# Altium footprint library FPC.PcbLib: 3 footprints
Each footprint in its own frame and in the unit in brackets; x right, y up, seen from the top. Pads: shape width x height; smd on the part's side, far side on the other; paste and mask are expansions set on the pad; w line width, h text height; cw(c..) or ccw(c..) is an arc to the next point about the centre after c.
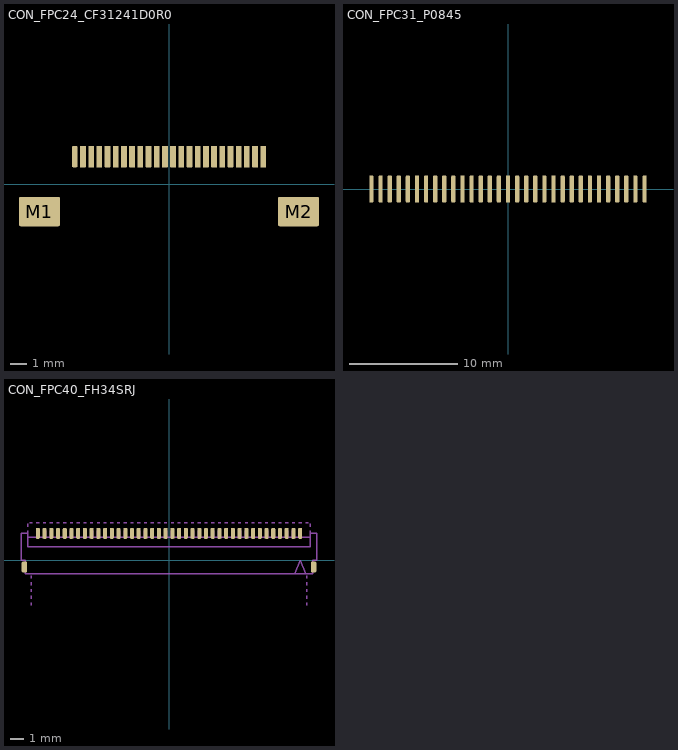
[diagram p0: the footprints below, top view; thin cyan lines are the x and y axes]

## CON_FPC24_CF31241D0R0 [mm]
pads (26):
  rrect50% 0.35x1.3 smd: 1(-5.75,1.675)
  rrect10% 0.35x1.3 smd: 2(-5.25,1.675) 3(-4.75,1.675) 4(-4.25,1.675) 5(-3.75,1.675) 6(-3.25,1.675) 7(-2.75,1.675) 8(-2.25,1.675) 9(-1.75,1.675) 10(-1.25,1.675) 11(-0.75,1.675) 12(-0.25,1.675) 13(0.25,1.675) 14(0.75,1.675) 15(1.25,1.675) 16(1.75,1.675) 17(2.25,1.675) 18(2.75,1.675) 19(3.25,1.675) 20(3.75,1.675) 21(4.25,1.675) 22(4.75,1.675) 23(5.25,1.675) 24(5.75,1.675)
  rrect10% 2.5x1.8 smd: M1(-7.9,-1.675) M2(7.9,-1.675)
3D body: height 0.2, standoff 0, extent 7,-2.075 8.6,-1.075
3D body: height 0.2, standoff 0, extent -8.6,-2.075 -7,-1.075
3D body: height 1.95, standoff 0, extent -7.6,-3.875 7.6,-0.575
3D body: height 0.8, standoff 0, extent 5.65,1.325 5.85,1.525
3D body: height 0.3, standoff 0, extent 5.65,1.425 5.85,1.825
3D body: height 0.8, standoff 0.5, extent 5.65,1.125 5.85,1.525
3D body: height 0.8, standoff 0, extent 0.15,1.325 0.35,1.525
3D body: height 0.3, standoff 0, extent 0.15,1.425 0.35,1.825
3D body: height 0.8, standoff 0.5, extent 0.15,1.125 0.35,1.525
3D body: height 0.8, standoff 0, extent 0.65,1.325 0.85,1.525
3D body: height 0.3, standoff 0, extent 0.65,1.425 0.85,1.825
3D body: height 0.8, standoff 0.5, extent 0.65,1.125 0.85,1.525
3D body: height 0.8, standoff 0, extent 1.15,1.325 1.35,1.525
3D body: height 0.3, standoff 0, extent 1.15,1.425 1.35,1.825
3D body: height 0.8, standoff 0.5, extent 1.15,1.125 1.35,1.525
3D body: height 0.8, standoff 0, extent 1.65,1.325 1.85,1.525
3D body: height 0.3, standoff 0, extent 1.65,1.425 1.85,1.825
3D body: height 0.8, standoff 0.5, extent 1.65,1.125 1.85,1.525
3D body: height 0.8, standoff 0, extent 2.15,1.325 2.35,1.525
3D body: height 0.3, standoff 0, extent 2.15,1.425 2.35,1.825
3D body: height 0.8, standoff 0.5, extent 2.15,1.125 2.35,1.525
3D body: height 0.8, standoff 0, extent 2.65,1.325 2.85,1.525
3D body: height 0.3, standoff 0, extent 2.65,1.425 2.85,1.825
3D body: height 0.8, standoff 0.5, extent 2.65,1.125 2.85,1.525
3D body: height 0.8, standoff 0, extent 3.15,1.325 3.35,1.525
3D body: height 0.3, standoff 0, extent 3.15,1.425 3.35,1.825
3D body: height 0.8, standoff 0.5, extent 3.15,1.125 3.35,1.525
3D body: height 0.8, standoff 0, extent 3.65,1.325 3.85,1.525
3D body: height 0.3, standoff 0, extent 3.65,1.425 3.85,1.825
3D body: height 0.8, standoff 0.5, extent 3.65,1.125 3.85,1.525
3D body: height 0.8, standoff 0, extent 4.15,1.325 4.35,1.525
3D body: height 0.3, standoff 0, extent 4.15,1.425 4.35,1.825
3D body: height 0.8, standoff 0.5, extent 4.15,1.125 4.35,1.525
3D body: height 0.8, standoff 0, extent 4.65,1.325 4.85,1.525
3D body: height 0.3, standoff 0, extent 4.65,1.425 4.85,1.825
3D body: height 0.8, standoff 0.5, extent 4.65,1.125 4.85,1.525
3D body: height 0.8, standoff 0, extent 5.15,1.325 5.35,1.525
3D body: height 0.3, standoff 0, extent 5.15,1.425 5.35,1.825
3D body: height 0.8, standoff 0.5, extent 5.15,1.125 5.35,1.525
3D body: height 0.8, standoff 0, extent -5.85,1.325 -5.65,1.525
3D body: height 0.3, standoff 0, extent -5.85,1.425 -5.65,1.825
3D body: height 0.8, standoff 0.5, extent -5.85,1.125 -5.65,1.525
3D body: height 0.8, standoff 0, extent -5.35,1.325 -5.15,1.525
3D body: height 0.3, standoff 0, extent -5.35,1.425 -5.15,1.825
3D body: height 0.8, standoff 0.5, extent -5.35,1.125 -5.15,1.525
3D body: height 0.8, standoff 0, extent -4.85,1.325 -4.65,1.525
3D body: height 0.3, standoff 0, extent -4.85,1.425 -4.65,1.825
3D body: height 0.8, standoff 0.5, extent -4.85,1.125 -4.65,1.525
3D body: height 0.8, standoff 0, extent -4.35,1.325 -4.15,1.525
3D body: height 0.3, standoff 0, extent -4.35,1.425 -4.15,1.825
3D body: height 0.8, standoff 0.5, extent -4.35,1.125 -4.15,1.525
3D body: height 0.8, standoff 0, extent -3.85,1.325 -3.65,1.525
3D body: height 0.3, standoff 0, extent -3.85,1.425 -3.65,1.825
3D body: height 0.8, standoff 0.5, extent -3.85,1.125 -3.65,1.525
3D body: height 0.8, standoff 0, extent -3.35,1.325 -3.15,1.525
3D body: height 0.3, standoff 0, extent -3.35,1.425 -3.15,1.825
3D body: height 0.8, standoff 0.5, extent -3.35,1.125 -3.15,1.525
3D body: height 0.8, standoff 0, extent -2.85,1.325 -2.65,1.525
3D body: height 0.3, standoff 0, extent -2.85,1.425 -2.65,1.825
3D body: height 0.8, standoff 0.5, extent -2.85,1.125 -2.65,1.525
3D body: height 0.8, standoff 0, extent -2.35,1.325 -2.15,1.525
3D body: height 0.3, standoff 0, extent -2.35,1.425 -2.15,1.825
3D body: height 0.8, standoff 0.5, extent -2.35,1.125 -2.15,1.525
3D body: height 0.8, standoff 0, extent -1.85,1.325 -1.65,1.525
3D body: height 0.3, standoff 0, extent -1.85,1.425 -1.65,1.825
3D body: height 0.8, standoff 0.5, extent -1.85,1.125 -1.65,1.525
3D body: height 0.8, standoff 0, extent -1.35,1.325 -1.15,1.525
3D body: height 0.3, standoff 0, extent -1.35,1.425 -1.15,1.825
3D body: height 0.8, standoff 0.5, extent -1.35,1.125 -1.15,1.525
3D body: height 0.8, standoff 0, extent -0.85,1.325 -0.65,1.525
3D body: height 0.3, standoff 0, extent -0.85,1.425 -0.65,1.825
3D body: height 0.8, standoff 0.5, extent -0.85,1.125 -0.65,1.525
3D body: height 0.8, standoff 0, extent -0.35,1.325 -0.15,1.525
3D body: height 0.3, standoff 0, extent -0.35,1.425 -0.15,1.825
3D body: height 0.8, standoff 0.5, extent -0.35,1.125 -0.15,1.525
3D body: height 1.94, standoff 0, extent -8.1,-3.075 8.1,1.125

## CON_FPC31_P0845 [mm]
pads (31):
  rrect50% 0.4x2.5 smd: 1(-12.675,0) 2(-11.83,0) 3(-10.985,0) 4(-10.14,0) 5(-9.295,0) 6(-8.45,0) 7(-7.605,0) 8(-6.76,0) 9(-5.915,0) 10(-5.07,0) 11(-4.225,0) 12(-3.38,0) 13(-2.535,0) 14(-1.69,0) 15(-0.845,0) 16(0,0) 17(0.845,0) 18(1.69,0) 19(2.535,0) 20(3.38,0) 21(4.225,0) 22(5.07,0) 23(5.915,0) 24(6.76,0) 25(7.605,0) 26(8.45,0) 27(9.295,0) 28(10.14,0) 29(10.985,0) 30(11.83,0) 31(12.675,0)

## CON_FPC40_FH34SRJ [mm] "Hirose FH34SRJ 40-pin FPC connector"
pads (42):
  rrect50% 0.3x0.8 smd: 1(9.75,2) 2(9.25,2) 3(8.75,2) 4(8.25,2) 5(7.75,2) 6(7.25,2) 7(6.75,2) 8(6.25,2) 9(5.75,2) 10(5.25,2) 11(4.75,2) 12(4.25,2) 13(3.75,2) 14(3.25,2) 15(2.75,2) 16(2.25,2) 17(1.75,2) 18(1.25,2) 19(0.75,2) 20(0.25,2) 21(-0.25,2) 22(-0.75,2) 23(-1.25,2) 24(-1.75,2) 25(-2.25,2) 26(-2.75,2) 27(-3.25,2) 28(-3.75,2) 29(-4.25,2) 30(-4.75,2) 31(-5.25,2) 32(-5.75,2) 33(-6.25,2) 34(-6.75,2) 35(-7.25,2) 36(-7.75,2) 37(-8.25,2) 38(-8.75,2) 39(-9.25,2) 40(-9.75,2)
  rrect50% 0.4x0.8 smd: M1(10.75,-0.5) M2(-10.75,-0.5)
Top Assembly:
  drawing of 191 lines, arcs and shapes, not listed
3D body: height 0.8, standoff 0, extent -10.775,-0.85 -10.625,-0.15
3D body: height 0.8, standoff 0, extent 10.625,-0.85 10.775,-0.15
3D body: height 0.95, standoff 0.5, extent -10.5,1 10.5,2.8
3D body: height 0.9, standoff 0, extent 9.675,-0.7 9.825,2.2
3D body: height 0.9, standoff 0, extent 9.175,-0.7 9.325,2.2
3D body: height 0.9, standoff 0, extent 8.675,-0.7 8.825,2.2
3D body: height 0.9, standoff 0, extent 8.175,-0.7 8.325,2.2
3D body: height 0.9, standoff 0, extent 7.675,-0.7 7.825,2.2
3D body: height 0.9, standoff 0, extent 7.175,-0.7 7.325,2.2
3D body: height 0.9, standoff 0, extent 6.675,-0.7 6.825,2.2
3D body: height 0.9, standoff 0, extent 6.175,-0.7 6.325,2.2
3D body: height 0.9, standoff 0, extent 5.675,-0.7 5.825,2.2
3D body: height 0.9, standoff 0, extent 5.175,-0.7 5.325,2.2
3D body: height 0.9, standoff 0, extent 4.675,-0.7 4.825,2.2
3D body: height 0.9, standoff 0, extent 4.175,-0.7 4.325,2.2
3D body: height 0.9, standoff 0, extent 3.675,-0.7 3.825,2.2
3D body: height 0.9, standoff 0, extent 3.175,-0.7 3.325,2.2
3D body: height 0.9, standoff 0, extent 2.675,-0.7 2.825,2.2
3D body: height 0.9, standoff 0, extent 2.175,-0.7 2.325,2.2
3D body: height 0.9, standoff 0, extent 1.675,-0.7 1.825,2.2
3D body: height 0.9, standoff 0, extent 1.175,-0.7 1.325,2.2
3D body: height 0.9, standoff 0, extent 0.675,-0.7 0.825,2.2
3D body: height 0.9, standoff 0, extent -0.325,-0.7 -0.175,2.2
3D body: height 0.9, standoff 0, extent -0.825,-0.7 -0.675,2.2
3D body: height 0.9, standoff 0, extent -1.325,-0.7 -1.175,2.2
3D body: height 0.9, standoff 0, extent -1.825,-0.7 -1.675,2.2
3D body: height 0.9, standoff 0, extent -2.325,-0.7 -2.175,2.2
3D body: height 0.9, standoff 0, extent -2.825,-0.7 -2.675,2.2
3D body: height 0.9, standoff 0, extent -3.325,-0.7 -3.175,2.2
3D body: height 0.9, standoff 0, extent -3.825,-0.7 -3.675,2.2
3D body: height 0.9, standoff 0, extent -4.325,-0.7 -4.175,2.2
3D body: height 0.9, standoff 0, extent -4.825,-0.7 -4.675,2.2
3D body: height 0.9, standoff 0, extent -5.325,-0.7 -5.175,2.2
3D body: height 0.9, standoff 0, extent -5.825,-0.7 -5.675,2.2
3D body: height 0.9, standoff 0, extent -6.325,-0.7 -6.175,2.2
3D body: height 0.9, standoff 0, extent -6.825,-0.7 -6.675,2.2
3D body: height 0.9, standoff 0, extent -7.325,-0.7 -7.175,2.2
3D body: height 0.9, standoff 0, extent -7.825,-0.7 -7.675,2.2
3D body: height 0.9, standoff 0, extent -8.325,-0.7 -8.175,2.2
3D body: height 0.9, standoff 0, extent -8.825,-0.7 -8.675,2.2
3D body: height 0.9, standoff 0, extent -9.325,-0.7 -9.175,2.2
3D body: height 0.9, standoff 0, extent -9.825,-0.7 -9.675,2.2
3D body: height 0.9, standoff 0, extent 0.175,-0.7 0.325,2.2
3D body: height 1, standoff 0.8, extent -11,-1 11,2
3D body: height 0.2, standoff 0, extent -11,-1 11,2
3D body: height 0.8, standoff 0.2, extent -11,-1 11,2
3D body: height 0.8, standoff 0.2, extent -10.4,-1 10.4,0.4